# Altium integrated library Motorola Memory Serial PROM.IntLib: 6 symbols
Pins are listed as number, name and electrical type; pins without a type are passive.

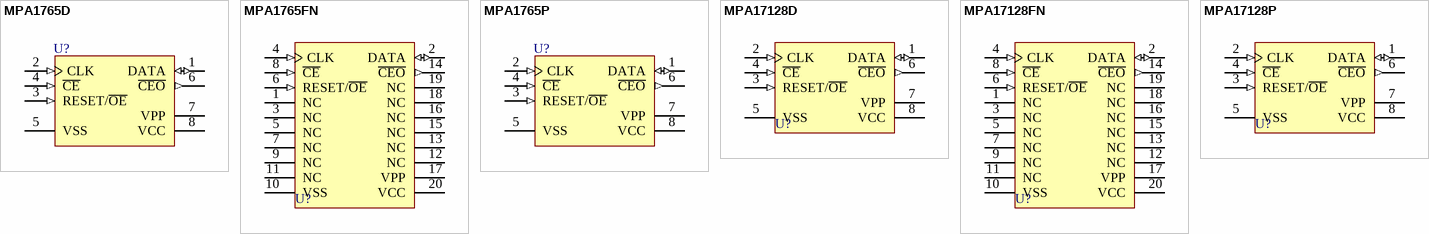
[diagram p0: symbols MPA1765D to MPA17128P]

## MPA1765D
designator U?
64K Serial EPROM; Published: 28-Feb-2003; LatestRevisionDate: 13-Apr-2006; LatestRevisionNote: IPC-7351 Footprint Added.; DatasheetVersion: DL201/D Rev. 1; PackageVersion: 1996; PackageReference: 751-05; Publisher: Altium Limited; PackageDescription: 8-Pin Small Outline Integrated Circuit 1.27 mm Pitch; Code_JEDEC: MS-012-AA; Code_IPC: SOIC127P600-8; ComponentLink1Description: Manufacturer Link; ComponentLink1URL: http://www.motorola.com/
footprint 751-05_N (SOIC, 8-Leads, Body 4.9x3.9mm, Pitch 1.27mm, IPC Medium Density)
footprint 751-05_L (SOIC, 8-Leads, Body 4.9x3.9mm, Pitch 1.27mm, IPC High Density)
footprint 751-05_M (SOIC, 8-Leads, Body 4.9x3.9mm, Pitch 1.27mm, IPC Low Density)
3D model 751-05 (8-Pin Small Outline Integrated Circuit 1.27 mm Pitch)
pins: 1 DATA (io), 2 CLK (in), 3 RESET/~{OE} (in), 4 ~{CE} (in), 5 VSS (power), 6 ~{CEO} (out), 7 VPP (power), 8 VCC (power)

## MPA1765FN
designator U?
64K Serial EPROM; Published: 28-Feb-2003; LatestRevisionDate: 13-Apr-2006; LatestRevisionNote: IPC-7351 Footprint Added.; DatasheetVersion: DL201/D Rev. 1; PackageReference: 775-02; Publisher: Altium Limited; PackageDescription: 20-Pin Leaded Chip Carrier 1.27 mm Pitch; ComponentLink1Description: Manufacturer Link; ComponentLink1URL: http://www.motorola.com/
footprint 775-02_N (Leaded Chip Carrier, 20-Leads, Body 9x9mm, Pitch 1.27mm, IPC Medium Density)
footprint 775-02_L (Leaded Chip Carrier, 20-Leads, Body 9x9mm, Pitch 1.27mm, IPC High Density)
footprint 775-02_M (Leaded Chip Carrier, 20-Leads, Body 9x9mm, Pitch 1.27mm, IPC Low Density)
3D model MPA1765-775-02 (20-Pin Leaded Chip Carrier 1.27 mm Pitch)
pins: 1 NC, 2 DATA (io), 3 NC, 4 CLK (in), 5 NC, 6 RESET/~{OE} (in), 7 NC, 8 ~{CE} (in), 9 NC, 10 VSS (power), 11 NC, 12 NC, 13 NC, 14 ~{CEO} (out), 15 NC, 16 NC, 17 VPP (power), 18 NC, 19 NC, 20 VCC (power)

## MPA1765P
designator U?
64K Serial EPROM; Published: 28-Feb-2003; LatestRevisionDate: 06-Jun-2005; LatestRevisionNote: Stylized 3D Model Added.; DatasheetVersion: DL201/D Rev. 1; PackageReference: 626-05; Publisher: Altium Limited; PackageDescription: DIP; 8 Leads; Row Spacing 7.62 mm; Pitch 2.54 mm; ComponentLink1Description: Manufacturer Link; ComponentLink1URL: http://www.motorola.com/
footprint 626-05 (DIP; 8 Leads; Row Spacing 7.62 mm; Pitch 2.54 mm)
3D model 626-05 (DIP; 8 Leads; Row Spacing 7.62 mm; Pitch 2.54 mm)
pins: 1 DATA (io), 2 CLK (in), 3 RESET/~{OE} (in), 4 ~{CE} (in), 5 VSS (power), 6 ~{CEO} (out), 7 VPP (power), 8 VCC (power)

## MPA17128D
designator U?
128K Serial EPROM; Published: 28-Feb-2003; LatestRevisionDate: 13-Apr-2006; LatestRevisionNote: IPC-7351 Footprint Added.; DatasheetVersion: DL201/D Rev. 1; PackageVersion: 1996; PackageReference: 751-05; Publisher: Altium Limited; PackageDescription: 8-Pin Small Outline Integrated Circuit 1.27 mm Pitch; Code_JEDEC: MS-012-AA; Code_IPC: SOIC127P600-8; ComponentLink1Description: Manufacturer Link; ComponentLink1URL: http://www.motorola.com/
footprint 751-05_N (SOIC, 8-Leads, Body 4.9x3.9mm, Pitch 1.27mm, IPC Medium Density)
footprint 751-05_L (SOIC, 8-Leads, Body 4.9x3.9mm, Pitch 1.27mm, IPC High Density)
footprint 751-05_M (SOIC, 8-Leads, Body 4.9x3.9mm, Pitch 1.27mm, IPC Low Density)
3D model 751-05 (8-Pin Small Outline Integrated Circuit 1.27 mm Pitch)
pins: 1 DATA (io), 2 CLK (in), 3 RESET/~{OE} (in), 4 ~{CE} (in), 5 VSS (power), 6 ~{CEO} (out), 7 VPP (power), 8 VCC (power)

## MPA17128FN
designator U?
MPA 17000 Serial EPROM Provide, Compact, Low Pin Count for MPA1000; Published: 28-Feb-2003; LatestRevisionDate: 13-Apr-2006; LatestRevisionNote: IPC-7351 Footprint Added.; DatasheetVersion: DL201/D Rev. 1; PackageReference: 775-02; Publisher: Altium Limited; PackageDescription: 20-Pin Leaded Chip Carrier 1.27 mm Pitch; ComponentLink1Description: Manufacturer Link; ComponentLink1URL: http://www.motorola.com/
footprint 775-02_N (Leaded Chip Carrier, 20-Leads, Body 9x9mm, Pitch 1.27mm, IPC Medium Density)
footprint 775-02_L (Leaded Chip Carrier, 20-Leads, Body 9x9mm, Pitch 1.27mm, IPC High Density)
footprint 775-02_M (Leaded Chip Carrier, 20-Leads, Body 9x9mm, Pitch 1.27mm, IPC Low Density)
3D model MPA17128-775-02 (20-Pin Leaded Chip Carrier 1.27 mm Pitch)
pins: 1 NC, 2 DATA (io), 3 NC, 4 CLK (in), 5 NC, 6 RESET/~{OE} (in), 7 NC, 8 ~{CE} (in), 9 NC, 10 VSS (power), 11 NC, 12 NC, 13 NC, 14 ~{CEO} (out), 15 NC, 16 NC, 17 VPP (power), 18 NC, 19 NC, 20 VCC (power)

## MPA17128P
designator U?
MPA 17000 Serial EPROM Provide, Compact, Low Pin Count for MPA1000; Published: 28-Feb-2003; LatestRevisionDate: 06-Jun-2005; LatestRevisionNote: Stylized 3D Model Added.; DatasheetVersion: DL201/D Rev. 1; PackageReference: 626-05; Publisher: Altium Limited; PackageDescription: DIP; 8 Leads; Row Spacing 7.62 mm; Pitch 2.54 mm; ComponentLink1Description: Manufacturer Link; ComponentLink1URL: http://www.motorola.com/
footprint 626-05 (DIP; 8 Leads; Row Spacing 7.62 mm; Pitch 2.54 mm)
3D model 626-05 (DIP; 8 Leads; Row Spacing 7.62 mm; Pitch 2.54 mm)
pins: 1 DATA (io), 2 CLK (in), 3 RESET/~{OE} (in), 4 ~{CE} (in), 5 VSS (power), 6 ~{CEO} (out), 7 VPP (power), 8 VCC (power)